# Altium footprint library RF_Mini-Circuits.PcbLib: 31 footprints (part 1 of 2)
Each footprint in its own frame and in the unit in brackets; x right, y up, seen from the top. Pads: shape width x height; smd on the part's side, far side on the other; paste and mask are expansions set on the pad; w line width, h text height; cw(c..) or ccw(c..) is an arc to the next point about the centre after c.
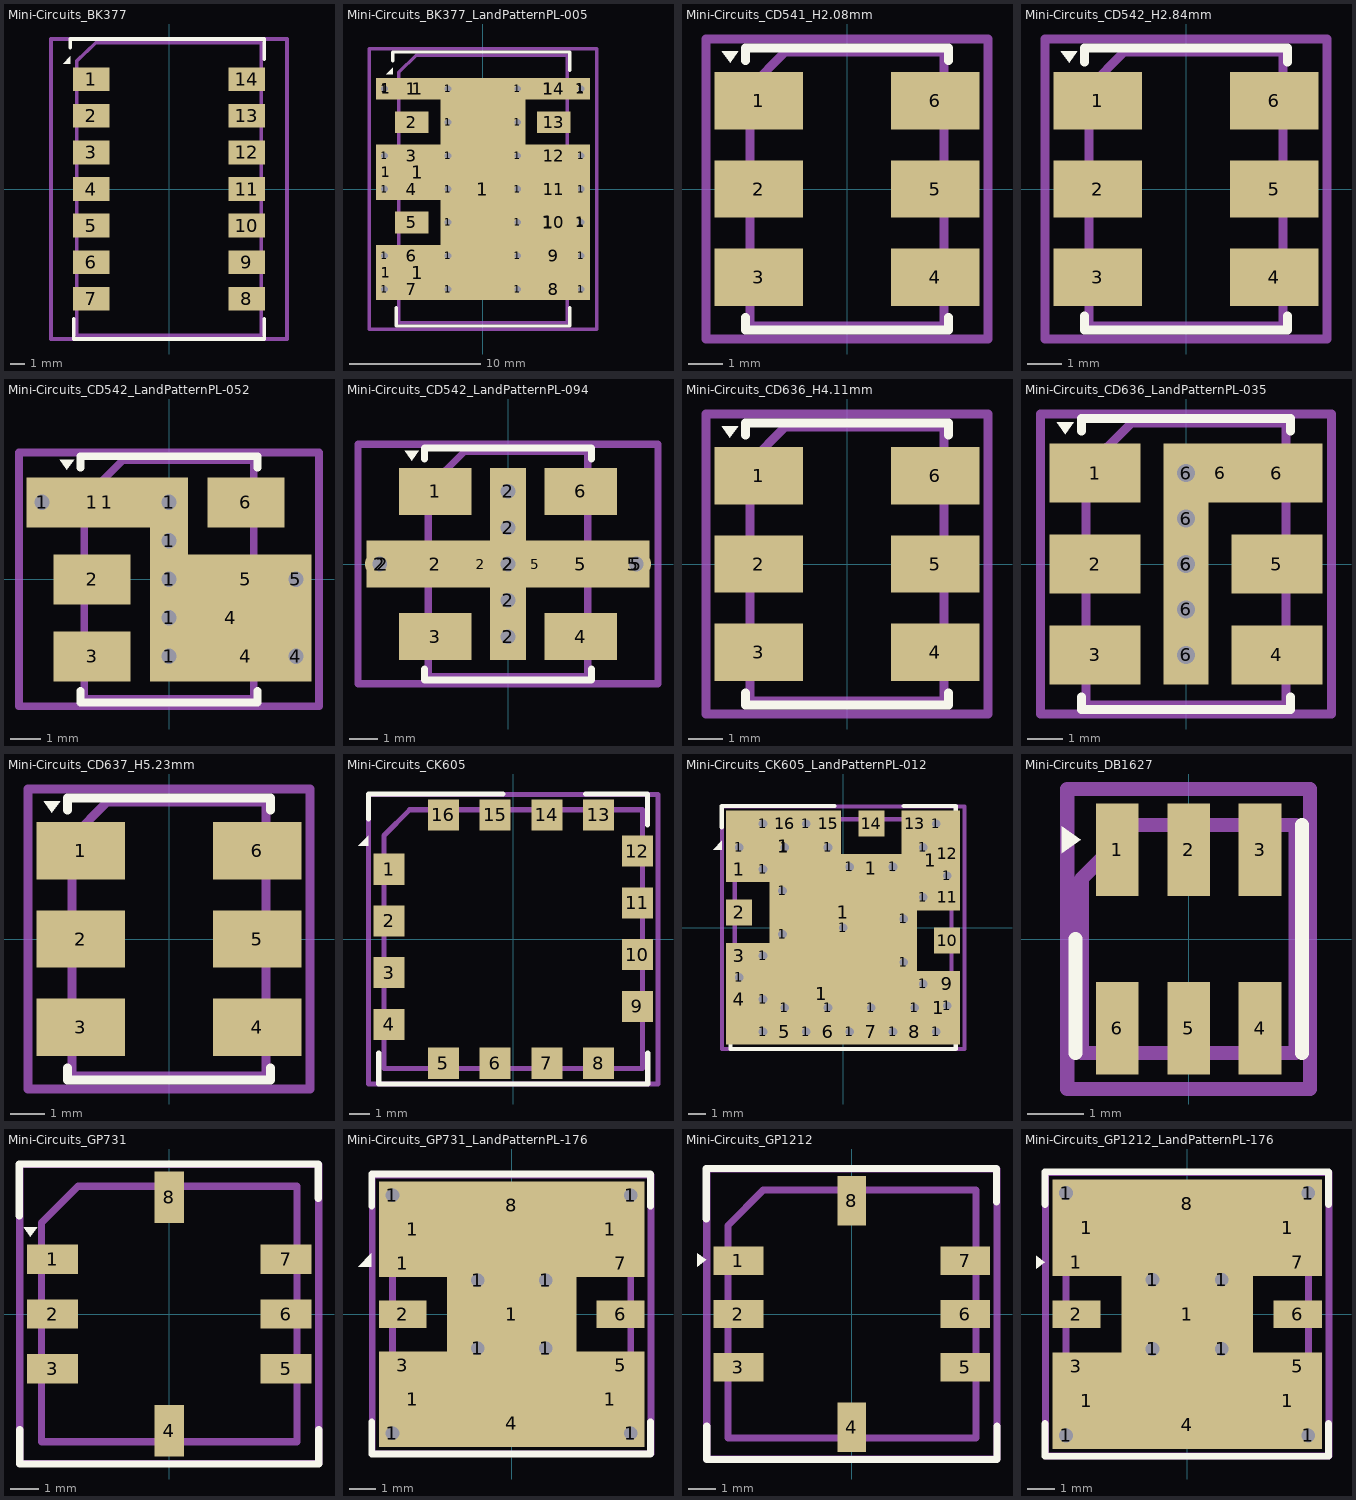
[diagram p0: the footprints below, top view; thin cyan lines are the x and y axes]

## Mini-Circuits_BK377 [mil]
pads (14):
  rect 100x65 smd: 1(-212.5,300) 2(-212.5,200) 3(-212.5,100) 4(-212.5,0) 5(-212.5,-100) 6(-212.5,-200) 7(-212.5,-300) 8(212.5,-300) 9(212.5,-200) 10(212.5,-100) 11(212.5,0) 12(212.5,100) 13(212.5,200) 14(212.5,300)
F.SilkS:
  region: -270,342.91 -289.69,342.91 -270,362.6
  lines w10: -270.08,386.61 -270,410 260,410 260,355 ; -260,-355 -260,-410 260,-410 260,-355
F.Fab:
  lines w10: -252.5,-400 -252.5,350 -200,400 252.5,400 252.5,-400 -252.5,-400
  text "'.Designator'" at -159.32,-33.08 h39.37
F.CrtYd:
  lines w10: -322.44,-409.84 -322.44,409.84 322.44,409.84 322.44,-409.84 -322.44,-409.84

## Mini-Circuits_BK377_LandPatternPL-005 [mil]
pads (50):
  round 40 hole 20: 1(-294.5,-300) 1(-294.5,-200) 1(-294.5,0) 1(-294.5,100) 1(-294.5,300) 1(-104.5,-300) 1(-104.5,-200) 1(-104.5,-100) 1(-104.5,0) 1(-104.5,100) 1(-104.5,200) 1(-104.5,300) 1(104.5,-300) 1(104.5,-200) 1(104.5,-100) 1(104.5,0) 1(104.5,100) 1(104.5,200) 1(104.5,300) 1(294.5,-300) 1(294.5,-200) 1(294.5,-100) 1(294.5,0) 1(294.5,100) 1(294.5,300)
  rect 58x165 smd: 1(-291.5,-250) 1(-291.5,50)
  rect 58x65 smd: 1(-291.5,300) 1(291.5,300)
  rect 100x65 smd: 1(-212.5,300) 2(-212.5,200) 3(-212.5,100) 4(-212.5,0) 5(-212.5,-100) 6(-212.5,-200) 7(-212.5,-300) 8(212.5,-300) 9(212.5,-200) 10(212.5,-100) 11(212.5,0) 12(212.5,100) 13(212.5,200) 14(212.5,300)
  rect 135x165 smd: 1(-195,-250) 1(-195,50)
  rect 135x65 smd: 1(-195,300) 1(195,300)
  rect 255x665 smd: 1(0,0)
  rect 135x465 smd: 1(195,-100)
  rect 58x465 smd: 1(291.5,-100)
F.SilkS:
  region: -270.08,343.31 -289.76,343.31 -270.08,362.99
  lines w10: -270.08,383.46 -270,410 260,410 260,355 ; -260,-355 -260,-410 260,-410 260,-355
F.Fab:
  lines w10: -252.5,-400 -252.5,350 -200,400 252.5,400 252.5,-400 -252.5,-400
  text "'.Designator'" at -159.32,-33.08 h39.37
F.CrtYd:
  lines w10: -340.16,-419.69 -340.16,419.69 340.16,419.69 340.16,-419.69 -340.16,-419.69

## Mini-Circuits_CD541_H2.08mm [mm]
pads (6):
  rect 2.54x1.65 smd: 1(-2.54,2.54) 2(-2.54,0) 3(-2.54,-2.54) 4(2.54,-2.54) 5(2.54,0) 6(2.54,2.54)
F.SilkS:
  region: -3.365,3.63 -3.605,3.966 -3.126,3.966
  lines w0.254: -2.922,-3.7 -2.921,-4.064 2.921,-4.064 2.92,-3.7 ; -2.92,3.7 -2.921,4.064 2.921,4.064 2.922,3.7
F.Fab:
  lines w0.254: -2.794,-3.937 -2.794,2.937 -1.794,3.937 2.794,3.937 2.794,-3.937 -2.794,-3.937
  text "'.Designator'" at 0.84,-4.047 h1
F.CrtYd:
  lines w0.254: -4.06,-4.32 -4.06,4.32 4.06,4.32 4.06,-4.32 -4.06,-4.32

## Mini-Circuits_CD542_H2.84mm [mm]
pads (6):
  rect 2.54x1.65 smd: 1(-2.54,2.54) 2(-2.54,0) 3(-2.54,-2.54) 4(2.54,-2.54) 5(2.54,0) 6(2.54,2.54)
F.SilkS:
  region: -3.365,3.63 -3.605,3.966 -3.126,3.966
  lines w0.254: -2.921,-3.65 -2.921,-4.064 2.921,-4.064 2.921,-3.65 ; -2.921,3.65 -2.921,4.064 2.921,4.064 2.921,3.65
F.Fab:
  lines w0.254: -2.794,-3.937 -2.794,2.937 -1.794,3.937 2.794,3.937 2.794,-3.937 -2.794,-3.937
  text "'.Designator'" at 0.84,-4.047 h1
F.CrtYd:
  lines w0.254: -4.06,-4.32 -4.06,4.32 4.06,4.32 4.06,-4.32 -4.06,-4.32

## Mini-Circuits_CD542_LandPatternPL-052 [mil]
pads (17):
  round 40 hole 20: 1(-165,100) 1(0,-100) 1(0,-50) 1(0,0) 1(0,50) 1(0,100) 4(165,-100) 5(165,0)
  rect 100x65 smd: 1(-100,100) 2(-100,0) 3(-100,-100) 4(100,-100) 5(100,0) 6(100,100)
  rect 210x65 smd: 1(-80,100)
  rect 50x265 smd: 1(0,0)
  rect 210x165 smd: 4(80,-50)
F.SilkS:
  region: -132.68,142.52 -142.13,155.75 -123.23,155.75
  lines w10: -115,-144.88 -115,-160 115,-160 115,-144.88 ; -115,144.88 -115,160 115,160 115,144.88
F.Fab:
  lines w10: -110,-155 -110,105 -60,155 110,155 110,-155 -110,-155
  text "'.Designator'" at 33.08,-159.32 h39.37
F.CrtYd:
  lines w10: -194.88,-164.96 -194.88,164.96 194.88,164.96 194.88,-164.96 -194.88,-164.96

## Mini-Circuits_CD542_LandPatternPL-094 [mil]
pads (18):
  rect 100x65 smd: 1(-100,100) 2(-100,0) 3(-100,-100) 4(100,-100) 5(100,0) 6(100,100)
  round 40 hole 20: 2(-177,0) 2(0,-100) 2(0,-50) 2(0,0) 2(0,50) 2(0,100) 5(177,0)
  rect 45x65 smd: 2(-172.5,0) 5(172.5,0)
  rect 25x65 smd: 2(-37.5,0) 5(37.5,0)
  rect 50x265 smd: 2(0,0)
F.SilkS:
  region: -132.68,142.52 -142.13,155.75 -123.23,155.75
  lines w10: -115,-144.88 -115,-160 115,-160 115,-144.88 ; -115,144.88 -115,160 115,160 115,144.88
F.Fab:
  lines w10: -110,-155 -110,105 -60,155 110,155 110,-155 -110,-155
  text "'.Designator'" at -159.32,-33.08 h39.37
F.CrtYd:
  lines w10: -206.69,-164.96 -206.69,164.96 206.69,164.96 206.69,-164.96 -206.69,-164.96

## Mini-Circuits_CD636_H4.11mm [mm]
pads (6):
  rect 2.54x1.65 smd: 1(-2.54,2.54) 2(-2.54,0) 3(-2.54,-2.54) 4(2.54,-2.54) 5(2.54,0) 6(2.54,2.54)
F.SilkS:
  region: -3.37,3.63 -3.61,3.966 -3.13,3.966
  lines w0.254: -2.921,-3.71 -2.921,-4.064 2.921,-4.064 2.921,-3.71 ; -2.921,3.71 -2.921,4.064 2.921,4.064 2.921,3.71
F.Fab:
  lines w0.254: -2.794,-3.937 -2.794,2.937 -1.794,3.937 2.794,3.937 2.794,-3.937 -2.794,-3.937
  text "'.Designator'" at 0.84,-4.047 h1
F.CrtYd:
  lines w0.254: -4.06,-4.32 -4.06,4.32 4.06,4.32 4.06,-4.32 -4.06,-4.32

## Mini-Circuits_CD636_LandPatternPL-035 [mil]
pads (13):
  rect 100x65 smd: 1(-100,100) 2(-100,0) 3(-100,-100) 4(100,-100) 5(100,0) 6(100,100)
  round 40 hole 20: 6(0,-100) 6(0,-50) 6(0,0) 6(0,50) 6(0,100)
  rect 50x265 smd: 6(0,0)
  rect 25x65 smd: 6(37.5,100)
F.SilkS:
  region: -132.68,142.91 -142.13,156.14 -123.23,156.14
  lines w10: -115,-146.06 -115,-160 115,-160 115,-146.06 ; -115,146.06 -115,160 115,160 115,146.06
F.Fab:
  lines w10: -110,-155 -110,105 -60,155 110,155 110,-155 -110,-155
  text "'.Designator'" at -159.32,-33.08 h39.37
F.CrtYd:
  lines w10: -159.84,-164.96 -159.84,164.96 159.84,164.96 159.84,-164.96 -159.84,-164.96

## Mini-Circuits_CD637_H5.23mm [mm]
pads (6):
  rect 2.54x1.65 smd: 1(-2.54,2.54) 2(-2.54,0) 3(-2.54,-2.54) 4(2.54,-2.54) 5(2.54,0) 6(2.54,2.54)
F.SilkS:
  region: -3.37,3.63 -3.61,3.966 -3.13,3.966
  lines w0.254: -2.921,-3.71 -2.921,-4.064 2.921,-4.064 2.921,-3.71 ; -2.921,3.71 -2.921,4.064 2.921,4.064 2.921,3.71
F.Fab:
  lines w0.254: -2.794,-3.937 -2.794,2.937 -1.794,3.937 2.794,3.937 2.794,-3.937 -2.794,-3.937
  text "'.Designator'" at 0.84,-4.047 h1
F.CrtYd:
  lines w0.254: -4.06,-4.32 -4.06,4.32 4.06,4.32 4.06,-4.32 -4.06,-4.32

## Mini-Circuits_CK605 [mil]
pads (16):
  rect 60x60 smd: 1(-240,135) 2(-240,35) 3(-240,-65) 4(-240,-165) 5(-135,-240) 6(-35,-240) 7(65,-240) 8(165,-240) 9(240,-130) 10(240,-30) 11(240,70) 12(240,170) 13(165,240) 14(65,240) 15(-35,240) 16(-135,240)
F.SilkS:
  region: -280.31,180.31 -300,180.31 -280.31,200
  lines w10: -280,231.89 -280,280.71 -20,280.71 ; -260,-280.31 260,-280.31 ; -260,-280 -260,-220 ; 139.61,280.71 259.61,280.71 259.61,220.71 ; 260,-280 260,-220
F.Fab:
  lines w10: -250,-250 -250,200 -200,250 250,250 250,-250 -250,-250
  text "'.Designator'" at -159.32,-33.08 h39.37
F.CrtYd:
  lines w10: -279.92,-280.31 -279.92,279.53 279.92,279.53 279.92,-280.31 -279.92,-280.31

## Mini-Circuits_CK605_LandPatternPL-012 [mil]
pads (53):
  round 40 hole 20: 1(-240,-115) 1(-240,185) 1(-185,-240) 1(-185,-165) 1(-185,-65) 1(-185,135) 1(-185,240) 1(-140,-15) 1(-140,85) 1(-135,-185) 1(-135,185) 1(-85,-240) 1(-85,240) 1(-35,-185) 1(-35,185) 1(0,0) 1(15,-240) 1(15,140) 1(65,-185) 1(115,-240) 1(115,140) 1(140,-80) 1(140,20) 1(165,-185) 1(185,-130) 1(185,70) 1(185,185) 1(215,-240) 1(215,240) 1(240,-180) 1(240,120)
  rect 60x60 smd: 1(-240,135) 2(-240,35) 3(-240,-65) 4(-240,-165) 5(-135,-240) 6(-35,-240) 7(65,-240) 8(165,-240) 9(240,-130) 10(240,-30) 11(240,70) 12(240,170) 13(165,240) 14(65,240) 15(-35,240) 16(-135,240)
  rect 265x165 smd: 1(-137.5,187.5)
  rect 440x235 smd: 1(-50,-152.5)
  rect 340x140 smd: 1(0,35)
  rect 140x65 smd: 1(65,137.5)
  rect 135x230 smd: 1(202.5,155)
  rect 100x170 smd: 1(220,-185)
F.SilkS:
  region: -280.31,180.31 -300,180.31 -280.31,200
  lines w10: -280,231.89 -280,280.71 -20,280.71 ; -260,-280.31 260,-280.31 ; -260,-280 -260,-220 ; 139.61,280.71 259.61,280.71 259.61,220.71 ; 260,-280 260,-220
F.Fab:
  lines w10: -250,-250 -250,200 -200,250 250,250 250,-250 -250,-250
  text "'.Designator'" at -159.32,-33.08 h39.37
F.CrtYd:
  lines w10: -279.92,-280.31 -279.92,279.53 279.92,279.53 279.92,-280.31 -279.92,-280.31

## Mini-Circuits_DB1627 [mm]
pads (6):
  rect 0.76x1.65 smd: 1(-1.27,1.59) 2(0,1.59) 3(1.27,1.59) 4(1.27,-1.59) 5(0,-1.59) 6(-1.27,-1.59)
F.SilkS:
  region: -1.92,1.77 -2.256,1.53 -2.256,2.01
  lines w0.254: -2.015,-2.03 -2.015,0 ; 2.015,-2.03 2.015,2.03
F.Fab:
  lines w0.254: -1.905,-2.03 -1.905,1.078 -0.953,2.03 1.905,2.03 1.905,-2.03 -1.905,-2.03
  text "'.Designator'" at -3.842,-0.796 h0.95
F.CrtYd:
  lines w0.254: -2.16,-2.67 -2.16,2.67 2.16,2.67 2.16,-2.67 -2.16,-2.67

## Mini-Circuits_GP731 [mil]
pads (8):
  rect 70x40 smd: 1(-160,75) 2(-160,0) 3(-160,-75) 5(160,-75) 6(160,0) 7(160,75)
  rect 40x70 smd: 4(0,-160) 8(0,160)
F.SilkS:
  region: -190.16,105.51 -199.61,118.74 -180.71,118.74
  lines w10: -205.51,134.25 -205.51,205.51 203.94,205.51 203.94,158.27 ; -204.72,-158.27 -204.72,-205.51 204.72,-205.51 204.72,-158.27
F.Fab:
  lines w10: -175,-175 -175,125 -125,175 175,175 175,-175 -175,-175
  text "'.Designator'" at -159.32,-33.08 h39.37
F.CrtYd:
  lines w10: -204.72,-204.72 -204.72,204.72 204.72,204.72 204.72,-204.72 -204.72,-204.72

## Mini-Circuits_GP731_LandPatternPL-176 [mil]
pads (21):
  round 40 hole 20: 1(-175,-175) 1(-175,175) 1(-50,-50) 1(-50,50) 1(50,-50) 1(50,50) 1(175,-175) 1(175,175)
  rect 70x40 smd: 1(-160,75) 2(-160,0) 3(-160,-75) 5(160,-75) 6(160,0) 7(160,75)
  rect 100x140 smd: 1(-145,-125) 1(-145,125) 1(145,-125) 1(145,125)
  rect 190x390 smd: 1(0,0)
  rect 40x70 smd: 4(0,-160) 8(0,160)
F.SilkS:
  region: -205.91,70.08 -225.59,70.08 -205.91,89.76
  lines w10: -205.51,-157.87 -205.51,-205.12 203.94,-205.12 203.94,-157.87 ; -205.51,158.66 -205.51,205.91 203.94,205.91 203.94,158.66
F.Fab:
  lines w10: -175,-175 -175,125 -125,175 175,175 175,-175 -175,-175
  text "'.Designator'" at -159.32,-33.08 h39.37
F.CrtYd:
  lines w10: -204.72,-204.72 -204.72,204.72 204.72,204.72 204.72,-204.72 -204.72,-204.72

## Mini-Circuits_GP1212 [mil]
pads (8):
  rect 70x40 smd: 1(-160,75) 2(-160,0) 3(-160,-75) 5(160,-75) 6(160,0) 7(160,75)
  rect 40x70 smd: 4(0,-160) 8(0,160)
F.SilkS:
  region: -205.51,76.38 -218.5,66.93 -218.5,85.83
  lines w10: -205.51,134.25 -205.51,205.51 203.94,205.51 203.94,158.27 ; -204.72,-158.27 -204.72,-205.51 204.72,-205.51 204.72,-158.27
F.Fab:
  lines w10: -175,-175 -175,125 -125,175 175,175 175,-175 -175,-175
  text "'.Designator'" at -159.32,-33.08 h39.37
F.CrtYd:
  lines w10: -204.72,-204.72 -204.72,204.72 204.72,204.72 204.72,-204.72 -204.72,-204.72

## Mini-Circuits_GP1212_LandPatternPL-176 [mil]
pads (21):
  round 40 hole 20: 1(-175,-175) 1(-175,175) 1(-50,-50) 1(-50,50) 1(50,-50) 1(50,50) 1(175,-175) 1(175,175)
  rect 70x40 smd: 1(-160,75) 2(-160,0) 3(-160,-75) 5(160,-75) 6(160,0) 7(160,75)
  rect 100x140 smd: 1(-145,-125) 1(-145,125) 1(145,-125) 1(145,125)
  rect 190x390 smd: 1(0,0)
  rect 40x70 smd: 4(0,-160) 8(0,160)
F.SilkS:
  region: -205.51,75.2 -218.5,65.75 -218.5,84.65
  lines w10: -205.51,-157.87 -205.51,-205.12 203.94,-205.12 203.94,-157.87 ; -205.51,158.66 -205.51,205.91 203.94,205.91 203.94,158.66
F.Fab:
  lines w10: -175,-175 -175,125 -125,175 175,175 175,-175 -175,-175
  text "'.Designator'" at -159.32,-33.08 h39.37
F.CrtYd:
  lines w10: -204.72,-204.72 -204.72,204.72 204.72,204.72 204.72,-204.72 -204.72,-204.72